# Altium footprint library Led.PcbLib: 10 footprints
Each footprint in its own frame and in the unit in brackets; x right, y up, seen from the top. Pads: shape width x height; smd on the part's side, far side on the other; paste and mask are expansions set on the pad; w line width, h text height; cw(c..) or ccw(c..) is an arc to the next point about the centre after c.
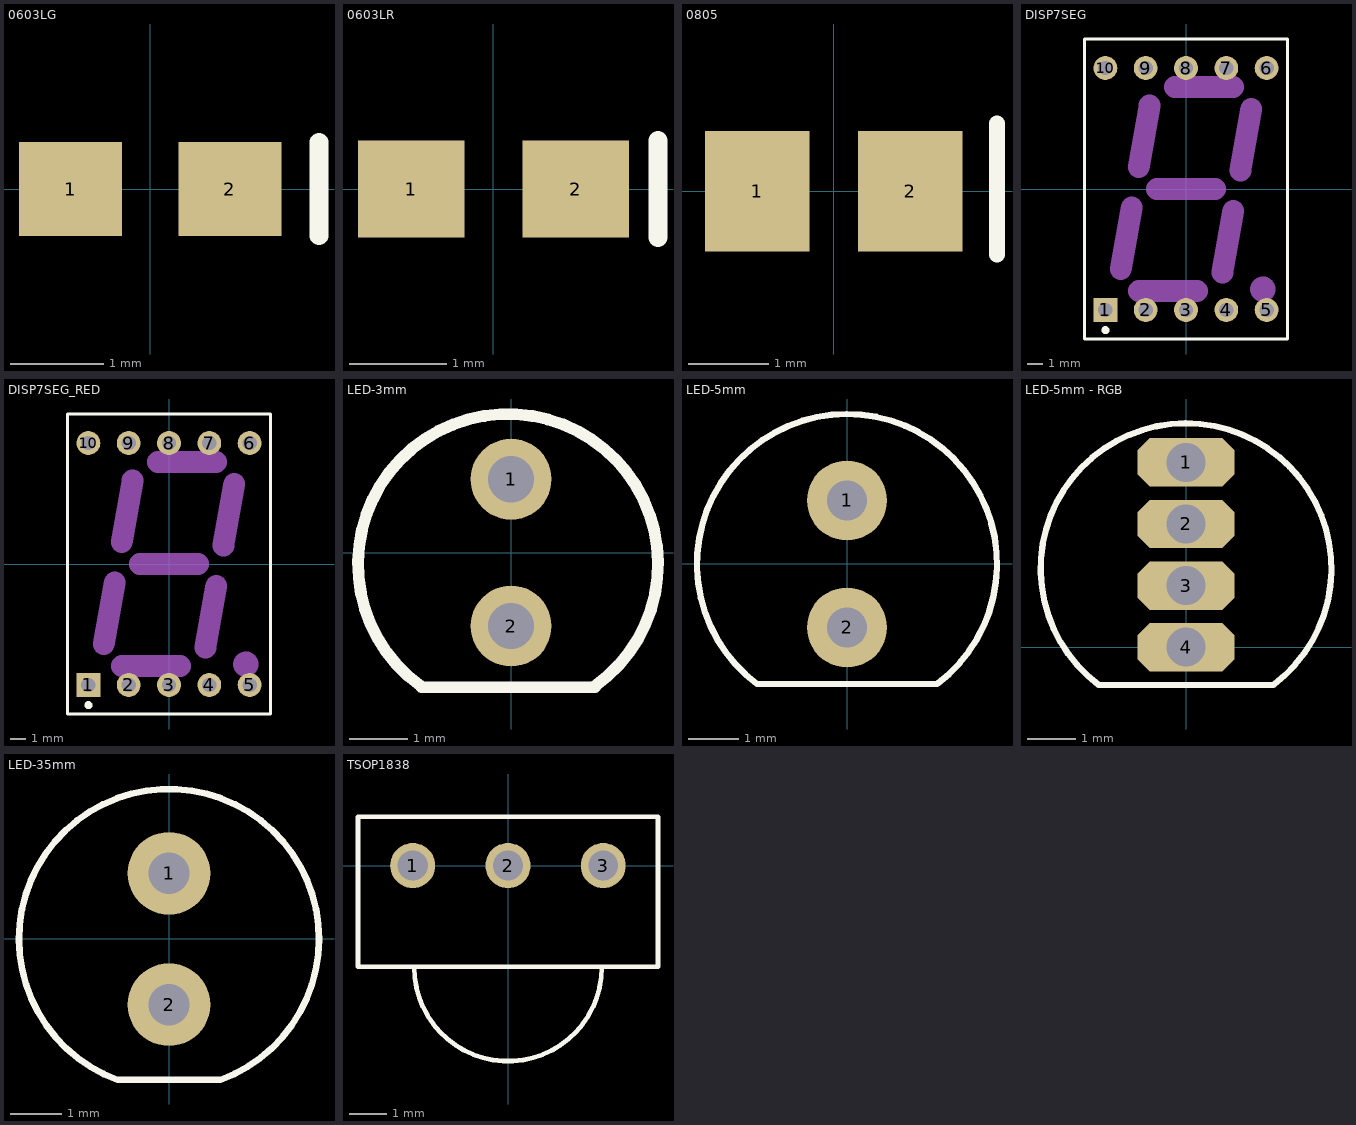
[diagram p0: the footprints below, top view; thin cyan lines are the x and y axes]

## 0603LG [mm] "Chip Led; Body 1.6 x 0.8 mm (LxW typ)"
height 0.6
pads (2):
  rect 1.1x1 smd: 1(-0.85,0) 2(0.85,0)
Top Overlay:
  lines w0.2: 1.802,-0.5 1.802,0.5
3D body "LED0603Green.STEP": height 0.63, standoff 0, extent -0.808,-0.368 0.843,0.357

## 0603LR [mm] "Chip Led; Body 1.6 x 0.8 mm (LxW typ)"
height 0.6
pads (2):
  rect 1.1x1 smd: 1(-0.85,0) 2(0.85,0)
Top Overlay:
  lines w0.2: 1.7,-0.5 1.7,0.5
3D body "LED0603Red.STEP": height 0.63, standoff 0, extent -0.808,-0.368 0.842,0.357

## 0805 [mm] "Chip Resistor; Body 2.0 x 1.3 mm (LxW typ)"
height 0.65
pads (2):
  rect 1.3x1.5 smd: 1(-0.95,0) 2(0.95,0)
Top Overlay:
  lines w0.2: 2.032,-0.787 2.032,0.838

## DISP7SEG [mm] "LED, 7-Segment Display, 14.2 mm, RHD; 10 Leads; Row Space 15.24 mm; Pitch 2.54 mm"
height 8.25
pads (10):
  rect 1.5x1.5 hole 0.9: 1(-5.08,-7.62)
  round 1.5 hole 0.9: 2(-2.54,-7.62) 3(0,-7.62) 4(2.54,-7.62) 5(5.08,-7.62) 6(5.08,7.62) 7(2.54,7.62) 8(0,7.62) 9(-2.54,7.62) 10(-5.08,7.62)
Top Overlay:
  circle w0.25: c-5.078,-8.89 r0.125
  lines w0.2: -6.4,-9.45 -6.4,9.45 6.4,9.45 6.4,-9.45 -6.4,-9.45
Mechanical 1:
  circle w1: c4.842,-6.316 r0.296
  lines w1.37: -4.108,-5.054 -3.425,-1.17 ; -2.974,1.368 -2.293,5.255 ; -2.958,-6.429 0.692,-6.426 ; -1.821,0 1.828,0 ; -0.689,6.425 2.96,6.425 ; 2.295,-5.256 2.98,-1.371 ; 3.427,1.169 4.11,5.058
Mechanical 13:
  lines w0.1: -6.4,-9.45 6.4,-9.45 6.4,9.45 -6.4,9.45 -6.4,-9.45
3D body "Disp7Seg.STEP": height 8.03, standoff -3.97, extent -6.35,-9.525 6.35,9.525

## DISP7SEG_RED [mm] "LED, 7-Segment Display, 14.2 mm, RHD; 10 Leads; Row Space 15.24 mm; Pitch 2.54 mm"
height 8.25
pads (10):
  rect 1.5x1.5 hole 0.9: 1(-5.08,-7.62)
  round 1.5 hole 0.9: 2(-2.54,-7.62) 3(0,-7.62) 4(2.54,-7.62) 5(5.08,-7.62) 6(5.08,7.62) 7(2.54,7.62) 8(0,7.62) 9(-2.54,7.62) 10(-5.08,7.62)
Top Overlay:
  circle w0.25: c-5.078,-8.89 r0.125
  lines w0.2: -6.4,-9.45 -6.4,9.45 6.4,9.45 6.4,-9.45 -6.4,-9.45
Mechanical 1:
  circle w1: c4.842,-6.316 r0.296
  lines w1.37: -4.108,-5.054 -3.425,-1.17 ; -2.974,1.368 -2.293,5.255 ; -2.958,-6.429 0.692,-6.426 ; -1.821,0 1.828,0 ; -0.689,6.425 2.96,6.425 ; 2.295,-5.256 2.98,-1.371 ; 3.427,1.169 4.11,5.058
Mechanical 13:
  lines w0.1: -6.4,-9.45 6.4,-9.45 6.4,9.45 -6.4,9.45 -6.4,-9.45
3D body "Disp7Seg_2.STEP": height 8.13, standoff -3.37, extent -6.15,-9.5 6.15,9.5

## LED-3mm [mm] "Typical RED GaAs LED; 2 Leads"
height 2.2
pads (2):
  round 1.4 hole 0.8: 1(0,1.27) 2(0,-1.27)
Top Overlay:
  lines w0.203: -1.562,-2.307 cw(c-0.054,-0.196) 1.448,-2.311 ; -1.551,-2.327 1.449,-2.327
3D body "SW3dPS-LEDd3R(3mm).STEP": height 5.51, standoff -2.49, extent -1.649,-1.636 1.64,1.664

## LED-5mm [mm] "Typical RED GaAs LED; 2 Leads"
height 2.2
pads (2):
  round 1.6 hole 0.8: 1(0,1.27) 2(0,-1.27)
Top Overlay:
  lines w0.127: 1.8,-2.4 1.5,-2.4 -1.5,-2.4 -1.8,-2.4 cw(c0,0) 1.815,-2.388
3D body "LED_5mm.step": height 8.73, standoff -4.87, extent -2.55,-2.55 2.55,2.55

## LED-5mm - RGB [mm] "Typical RED GaAs LED; 2 Leads"
height 2.2
pads (4):
  oct 2x1 hole 0.8: 1(0,3.81) 2(0,2.54) 3(0,1.27) 4(0,0)
Top Overlay:
  lines w0.127: 1.8,-0.781 1.5,-0.781 -1.5,-0.781 -1.8,-0.781 cw(c0,1.619) 1.815,-0.769

## LED-35mm [mm] "Typical RED GaAs LED; 2 Leads"
height 2.2
pads (2):
  round 1.6 hole 0.8: 1(0,1.27) 2(0,-1.27)
Top Overlay:
  lines w0.127: -0.992,-2.725 cw(c0,0) 0.992,-2.725 -0.992,-2.725
3D body "LED 5mm.STEP": height 8.8, standoff -27, extent -2.579,-2.896 2.921,3.104

## TSOP1838 [mm] "Typical RED GaAs LED; 2 Leads"
height 2.2
pads (3):
  round 1.2 hole 0.8: 1(-2.54,0) 2(0,0) 3(2.54,0)
Top Overlay:
  lines w0.127: -2.5,-2.718 ccw(c0,-2.718) 2.5,-2.718 ; -4,-2.7 -4,0 -4,1.3 0,1.3 4,1.3 4,0 4,-2.7 0,-2.7 -4,-2.7